# Altium schematic symbol library kmilo17pet-TI_BattMgmt.SchLib: 950 symbols (part 32 of 60)
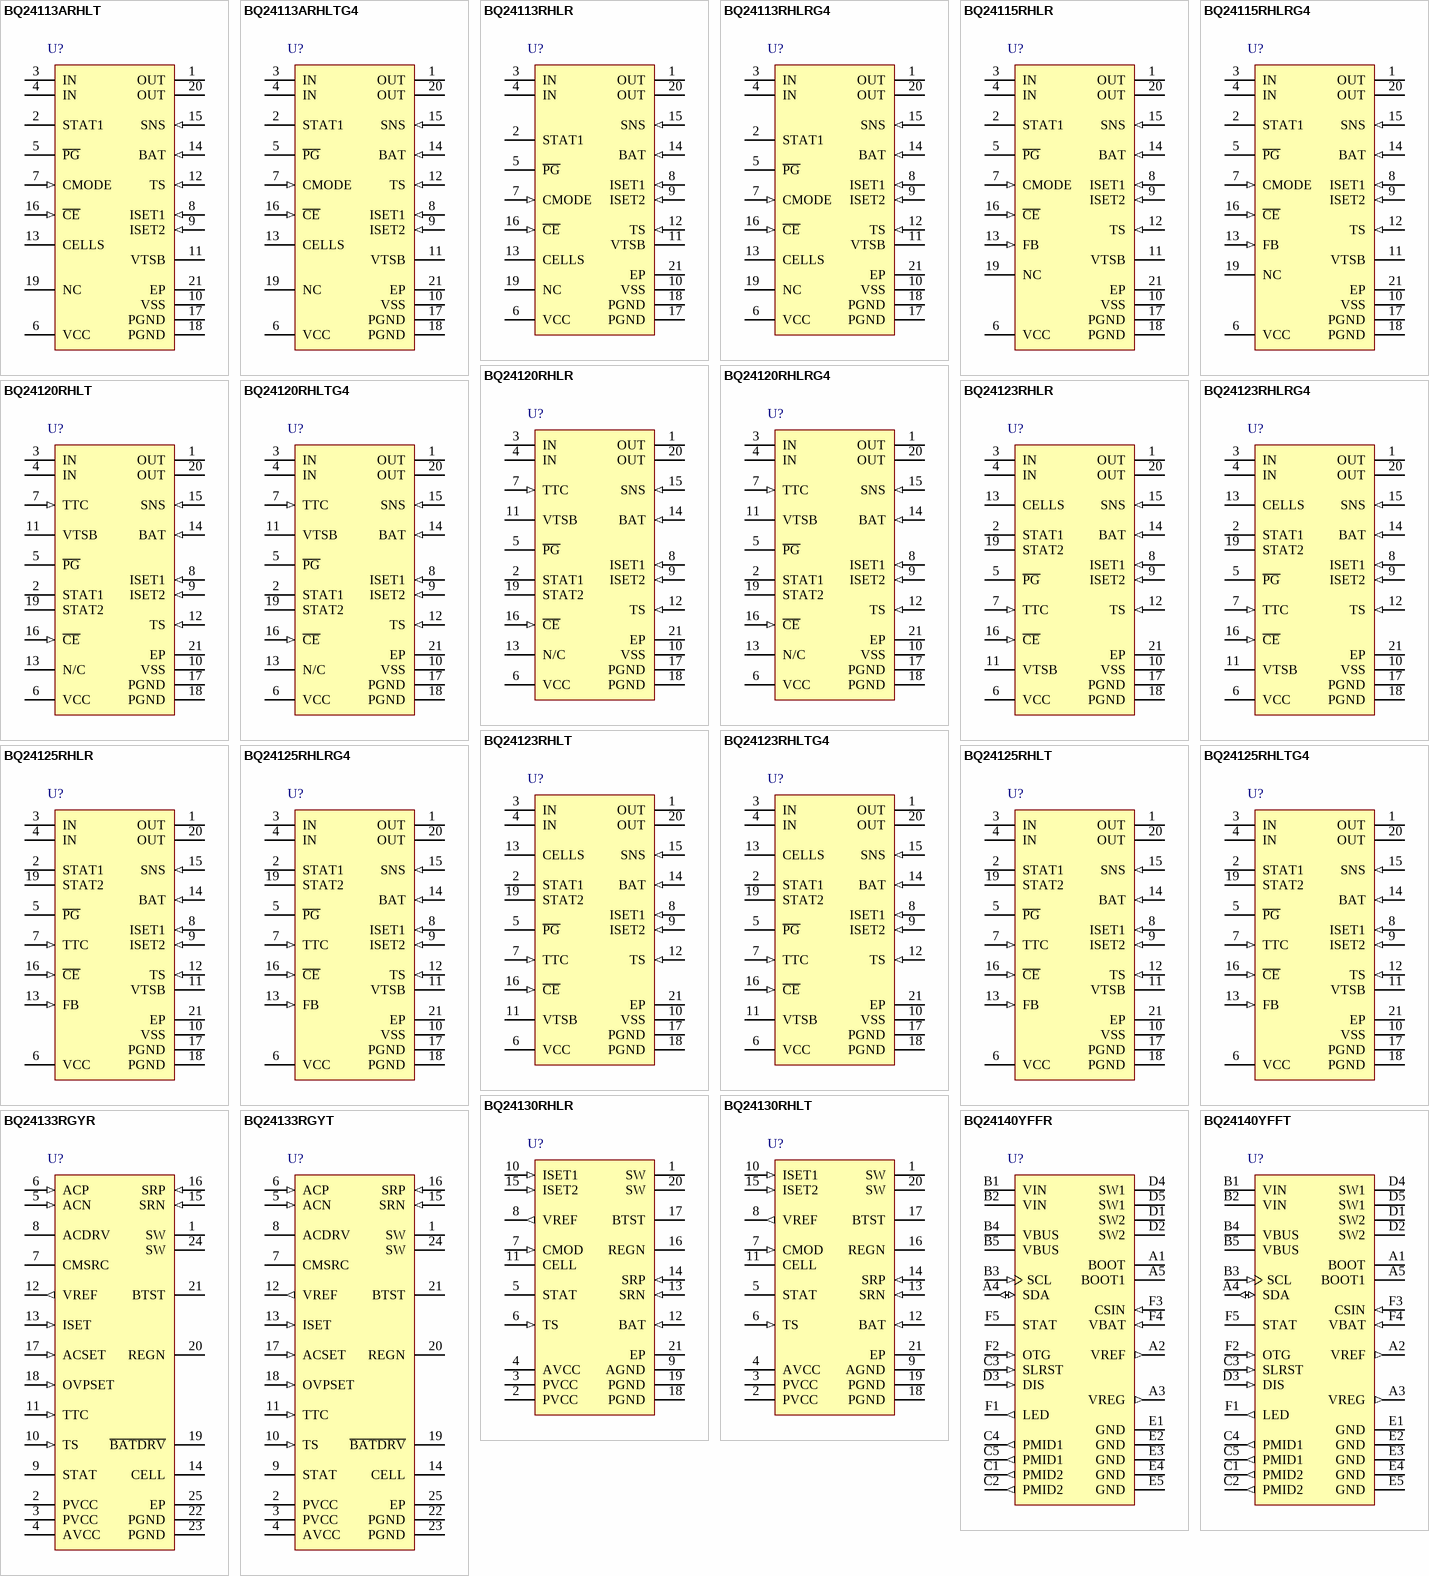
[diagram p65: symbols BQ24113ARHLT to BQ24140YFFT]

## BQ24130RHLR
designator U?
600 kHz Synchronous Switch-Mode Li-Ion and Li-Polymer Host-Controlled Battery Charger, -40 to 85 degC, 20-pin QFN (RHL), Green (RoHS & no Sb/Br); PartNumber: BQ24130RHLR; Manufacturer: Texas Instruments; Lead Acid: N; SubFamily: Battery Charge Management; DatasheetVersion: SLUSAN2C; PackageVersion: revJ, Dec-2011; PackageReference: RHL20-3050X2050TP; PackageDescription: 20-Leads Plastic Quad Flatpack No-Lead, 4.5 x 3.5 x 0.9 mm Body, 0.5 mm Pitch, Exposed Pad; Supplier 1: Digi-Key; Supplier Part Number 1: BQ24130RHLR-ND; Supplier Part Number 3: 595-BQ24130RHLR; Eco-Plan: Green (RoHS & no Sb/Br); Li-Ion: N; Li-Polymer: N; NiCd: N; NiMH: N; Over Voltage Protection: N; Mounting Technology: Surface Mount; ComponentLink1Description: Datasheet; ComponentLink1URL: http://www.ti.com/general/docs/lit/getliterature.tsp?genericPartNumber=BQ24130&fileType=pdf
footprint RHL20-3050X2050TP (QFN, 20-Leads, Body 4.5x3.5mm, Pitch 0.5mm, Thermal Pad 3.05x2.05mm, TI Recommended)
pins: 1 SW (power) "Swiching node, charge current output inductor connection. Connect the 0.47-uF bootstrap capacitor from SW to BTST.", 2 PVCC (power) "Charger input voltage. Connect at least 10-uF ceramic capacitor from PVCC to PGND and place it as close as possible to IC.", 3 PVCC (power) "Charger input voltage. Connect at least 10-µF ceramic capacitor from PVCC to PGND and place it as close as possible to IC.", 4 AVCC (power) "IC power positive supply. Place a 1-uF ceramic capacitor from AVCC to AGND and place it as close as possible to IC. Place a 10 ohm resistor from input side to AVCC pin to filter the noise. For 5 V input, a 5-ohm resistor is (See Datasheet)", 5 STAT (hiz) "Open-drain charge status pin with 10-kohm pull up to power rail. The STAT pin can be used to drive LED or communicate with the host processor. It indicates vaious charger operations: LOW when charge in process, HIGH when (See Datasheet)", 6 TS (in) "Temperature qualification voltage input. Connect a negative temperature coefficient thermistor. Program the hot and cold temperature window with a resistor divider from VREF to TS to AGND. The temperature qualification (See Datasheet)", 7 CMOD (in) "Charge mode selection: low (pull down to AGND) for pre-charge current as set by ISET2 pin and high (pull up to VREF) for fast charge current as set by ISET1 pin. If the battery voltage reaches the voltage regulation set (See Datasheet)", 8 VREF (out) "3.3 V reference voltage output. Place a 1-uF ceramic capacitor from VREF to AGND pin close to the IC. This voltage could be used for programming charge current regulation on ISET1 and ISET2 pins, programming the threshold of (See Datasheet)", 9 AGND (power) "Analog ground. Ground connection for low-current sensitive analog and digital signals. On PCB layout, connect to the analog ground plane, and only connect to PGND through the PowerPad underneath the IC.", 10 ISET1 (in) "Fast charge current set point. Use a voltage divider from VREF to AGND to set this value.The charger is disabled when ISET1 pin voltage is below 50mV and is enabled when ISET1 pin voltage is above 100mV.", 11 CELL "Cell selection pin. Set CELL pin LO for 1-cell, Float for 2-cell, and HI for 3-cell with a fixed 4.2 V per cell.", 12 BAT (in) "Battery voltage remote sense. Directly connect a kelvin sense trace from the battery pack positive terminal to the BAT pin to accurately sense the battery pack voltage. Place a 0.1-uF capacitor from BAT to AGND close to the (See Datasheet)", 13 SRN (in) "Charge current sense resistor, negative input. A 0.1-uF ceramic capacitor is placed from SRN to SRP to provide differential-mode filtering. A 0.1-uF ceramic capacitor is placed from SRN pin to AGND for common-mode filtering.", 14 SRP (in) "Charge current sense resistor, positive input. A 0.1-uF ceramic capacitor is placed from SRN to SRP to provide differential-mode filtering. A 0.1-uF ceramic capacitor is placed from SRN pin to AGND for common-mode filtering.", 15 ISET2 (in) "Pre-charge current set point. Use a voltage divider from VREF to AGND to set this value.", 16 REGN (power) "PWM low side driver positive 6V supply output. Connect a 1-uF ceramic capacitor from REGN to PGND pin, close to the IC. Use for low side driver and high-side driver bootstrap voltage by integrated diode from REGN to BTST.", 17 BTST (power) "PWM high side driver positive supply. Connect the 47 nF bootstrap capacitor from SW to BTST.", 18 PGND (power) "Power ground. Ground connection for high-current power converter node. On PCB layout, connect directly to source of low-side power MOSFET, to ground connection of in put and output capacitors of the charger. Only connect to (See Datasheet)", 19 PGND (power) "Power ground. Ground connection for high-current power converter node. On PCB layout, connect directly to source of low-side power MOSFET, to ground connection of in put and output capacitors of the charger. Only connect to (See Datasheet)", 20 SW (power) "Swiching node, charge current output inductor connection. Connect the 0.47-uF bootstrap capacitor from SW to BTST.", 21 EP (power) "Exposed pad beneath the IC. Always solder PowerPAD to the board, and have vias on the PowerPAD plane star-connecting to AGND and ground plane for high-current power converter. It also serves as a thermal pad to dissipate the (See Datasheet)"

## BQ24130RHLT
designator U?
600 kHz Synchronous Switch-Mode Li-Ion and Li-Polymer Host-Controlled Battery Charger, -40 to 85 degC, 20-pin QFN (RHL), Green (RoHS & no Sb/Br); PartNumber: BQ24130RHLT; Manufacturer: Texas Instruments; Lead Acid: N; SubFamily: Battery Charge Management; DatasheetVersion: SLUSAN2C; PackageVersion: revJ, Dec-2011; PackageReference: RHL20-3050X2050TP; PackageDescription: 20-Leads Plastic Quad Flatpack No-Lead, 4.5 x 3.5 x 0.9 mm Body, 0.5 mm Pitch, Exposed Pad; Supplier 1: Digi-Key; Supplier Part Number 1: 296-29534-2-ND; Supplier Part Number 3: 296-29534-6-ND; Eco-Plan: Green (RoHS & no Sb/Br); Li-Ion: N; Li-Polymer: N; NiCd: N; NiMH: N; Over Voltage Protection: N; Mounting Technology: Surface Mount; ComponentLink1Description: Datasheet; ComponentLink1URL: http://www.ti.com/general/docs/lit/getliterature.tsp?genericPartNumber=BQ24130&fileType=pdf
footprint RHL20-3050X2050TP (QFN, 20-Leads, Body 4.5x3.5mm, Pitch 0.5mm, Thermal Pad 3.05x2.05mm, TI Recommended)
pins: 1 SW (power) "Swiching node, charge current output inductor connection. Connect the 0.47-uF bootstrap capacitor from SW to BTST.", 2 PVCC (power) "Charger input voltage. Connect at least 10-uF ceramic capacitor from PVCC to PGND and place it as close as possible to IC.", 3 PVCC (power) "Charger input voltage. Connect at least 10-µF ceramic capacitor from PVCC to PGND and place it as close as possible to IC.", 4 AVCC (power) "IC power positive supply. Place a 1-uF ceramic capacitor from AVCC to AGND and place it as close as possible to IC. Place a 10 ohm resistor from input side to AVCC pin to filter the noise. For 5 V input, a 5-ohm resistor is (See Datasheet)", 5 STAT (hiz) "Open-drain charge status pin with 10-kohm pull up to power rail. The STAT pin can be used to drive LED or communicate with the host processor. It indicates vaious charger operations: LOW when charge in process, HIGH when (See Datasheet)", 6 TS (in) "Temperature qualification voltage input. Connect a negative temperature coefficient thermistor. Program the hot and cold temperature window with a resistor divider from VREF to TS to AGND. The temperature qualification (See Datasheet)", 7 CMOD (in) "Charge mode selection: low (pull down to AGND) for pre-charge current as set by ISET2 pin and high (pull up to VREF) for fast charge current as set by ISET1 pin. If the battery voltage reaches the voltage regulation set (See Datasheet)", 8 VREF (out) "3.3 V reference voltage output. Place a 1-uF ceramic capacitor from VREF to AGND pin close to the IC. This voltage could be used for programming charge current regulation on ISET1 and ISET2 pins, programming the threshold of (See Datasheet)", 9 AGND (power) "Analog ground. Ground connection for low-current sensitive analog and digital signals. On PCB layout, connect to the analog ground plane, and only connect to PGND through the PowerPad underneath the IC.", 10 ISET1 (in) "Fast charge current set point. Use a voltage divider from VREF to AGND to set this value.The charger is disabled when ISET1 pin voltage is below 50mV and is enabled when ISET1 pin voltage is above 100mV.", 11 CELL "Cell selection pin. Set CELL pin LO for 1-cell, Float for 2-cell, and HI for 3-cell with a fixed 4.2 V per cell.", 12 BAT (in) "Battery voltage remote sense. Directly connect a kelvin sense trace from the battery pack positive terminal to the BAT pin to accurately sense the battery pack voltage. Place a 0.1-uF capacitor from BAT to AGND close to the (See Datasheet)", 13 SRN (in) "Charge current sense resistor, negative input. A 0.1-uF ceramic capacitor is placed from SRN to SRP to provide differential-mode filtering. A 0.1-uF ceramic capacitor is placed from SRN pin to AGND for common-mode filtering.", 14 SRP (in) "Charge current sense resistor, positive input. A 0.1-uF ceramic capacitor is placed from SRN to SRP to provide differential-mode filtering. A 0.1-uF ceramic capacitor is placed from SRN pin to AGND for common-mode filtering.", 15 ISET2 (in) "Pre-charge current set point. Use a voltage divider from VREF to AGND to set this value.", 16 REGN (power) "PWM low side driver positive 6V supply output. Connect a 1-uF ceramic capacitor from REGN to PGND pin, close to the IC. Use for low side driver and high-side driver bootstrap voltage by integrated diode from REGN to BTST.", 17 BTST (power) "PWM high side driver positive supply. Connect the 47 nF bootstrap capacitor from SW to BTST.", 18 PGND (power) "Power ground. Ground connection for high-current power converter node. On PCB layout, connect directly to source of low-side power MOSFET, to ground connection of in put and output capacitors of the charger. Only connect to (See Datasheet)", 19 PGND (power) "Power ground. Ground connection for high-current power converter node. On PCB layout, connect directly to source of low-side power MOSFET, to ground connection of in put and output capacitors of the charger. Only connect to (See Datasheet)", 20 SW (power) "Swiching node, charge current output inductor connection. Connect the 0.47-uF bootstrap capacitor from SW to BTST.", 21 EP (power) "Exposed pad beneath the IC. Always solder PowerPAD to the board, and have vias on the PowerPAD plane star-connecting to AGND and ground plane for high-current power converter. It also serves as a thermal pad to dissipate the (See Datasheet)"

## BQ24133RGYR
designator U?
Synchronous Switch-Mode Li-Ion and Li-Polymer Stand-Alone Battery Charger, -40 to 85 degC, 24-pin VQFN (RGY), Green (RoHS & no Sb/Br); PartNumber: BQ24133RGYR; Manufacturer: Texas Instruments; Lead Acid: N; SubFamily: Battery Charge Management; DatasheetVersion: SLUSAF7B; PackageVersion: revI, Jun-2011; PackageReference: RGY24-3100X2050TP; PackageDescription: 24-Leads Plastic Quad Flatpack No-Lead, 5.5 x 3.5 x 0.9 mm Body, 0.5 mm Pitch, Exposed Pad; Supplier 1: Digi-Key; Supplier Part Number 1: BQ24133RGYR-ND; Supplier Part Number 3: 595-BQ24133RGYR; Eco-Plan: Green (RoHS & no Sb/Br); Li-Ion: N; Li-Polymer: N; NiCd: N; NiMH: N; Over Voltage Protection: N; Mounting Technology: Surface Mount; Code_JEDEC: MO-241-BA; ComponentLink1Description: Datasheet; ComponentLink1URL: http://www.ti.com/general/docs/lit/getliterature.tsp?genericPartNumber=BQ24133&fileType=pdf
footprint RGY24-3100X2050TP (QFN, 24-Leads, Body 5.5x3.5mm, Pitch 0.5mm, Thermal Pad 3.1x2.05mm, TI Recommended)
pins: 1 SW (power) "Switching node, charge current output inductor connection. Connect the 0.047-uF bootstrap capacitor from SW to BTST.", 2 PVCC (power) "Charger input voltage. Connect at least 10-uF ceramic capacitor from PVCC to PGND and place it as close as possible to IC", 3 PVCC (power) "Charger input voltage. Connect at least 10-uF ceramic capacitor from PVCC to PGND and place it as close as possible to IC", 4 AVCC (power) "IC power positive supply. Place a 1-uF ceramic capacitor from AVCC to AGND and place it as close as possible to IC. Place a 10-ohm resistor from input side to AVCC pin to filter the noise. For 5V input, a 5-ohm resistor is (See Datasheet)", 5 ACN (in) "Adapter current sense resistor negative input. A 0.1-uF ceramic capacitor is placed from ACN to ACP to provide differential-mode filtering. An optional 0.1-uF ceramic capacitor is placed from ACN pin to AGND for common-mode (See Datasheet)", 6 ACP (in) "Adapter current sense resistor positive input. A 0.1-uF ceramic capacitor is placed from ACN to ACP to provide differential-mode filtering. A 0.1-uF ceramic capacitor is placed from ACP pin to AGND for common-mode filtering.", 7 CMSRC "Connect to common source of N-channel ACFET and reverse blocking MOSFET (RBFET). Place 4-kohm resistor from CMSRC pin to the common source of ACFET and RBFET to control the turn-on speed. The resistance between ACDRV and (See Datasheet)", 8 ACDRV "AC adapter to system switch driver output. Connect to 4-kohm resistor then to the gate of the ACFET N-channel power MOSFET and the reverse conduction blocking N-channel power MOSFET. Connect both FETs as common-source. The (See Datasheet)", 9 STAT (hiz) "Open-drain charge status pin with 10-k ohm pull up to power rail. The STAT pin can be used to drive LED or communicate with the host processor. It indicates various charger operations: LOW when charge in progress. HIGH when (See Datasheet)", 10 TS (in) "Temperature qualification voltage input. Connect a negative temperature coefficient thermistor. Program the hot and cold temperature window with a resistor divider from VREF to TS to AGND. The temperature qualification (See Datasheet)", 11 TTC (in) "Safety Timer and termination control. Connect a capacitor from this node to AGND to set the fast charge safety timer(5.6min/nF). Pre-charge timer is internally fixed to 30 minutes. Pull the TTC to LOW to disable the charge (See Datasheet)", 12 VREF (out) "3.3V reference voltage output. Place a 1-uF ceramic capacitor from VREF to AGND pin close to the IC. This voltage could be used for programming ISET and ACSET and TS pins. It may also serve as the pull-up rail of STAT pin (See Datasheet)", 13 ISET (in) "Fast charge current set point. Use a voltage divider from VREF to ISET to AGND to set the fast charge current: ICHG=VISET/(20*RSR) The pre-charge and termination current is internally as one tenth of the charge current. The (See Datasheet)", 14 CELL "Cell selection pin. Set CELL pin LOW for 1-cell, Float for 2-cell (0.8V-1.8V), and HIGH for 3-cell with a fixed 4.2V per cell.", 15 SRN (in) "Charge current sense resistor negative input. A 0.1-uF ceramic capacitor is placed from SRN to SRP to provide differential-mode filtering. A 0.1-uF ceramic capacitor is placed from SRN pin to AGND for common-mode filtering.", 16 SRP (in) "Charge current sense resistor, positive input. A 0.1-uF ceramic capacitor is placed from SRN to SRP to provide differential-mode filtering. A 0.1-uF ceramic capacitor is placed from SRP pin to AGND for common-mode filtering.", 17 ACSET (in) "Input current set point. Use a voltage divider from VREF to ACSET to AGND to set this value:IDPM=VACSET/(20*RAC)", 18 OVPSET (in) "Valid input voltage set point. Use a voltage divider from input to OVPSET to AGND to set this voltage. The voltage above internal 1.6V reference indicates input over-voltage, and the voltage below internal 0.5V reference (See Datasheet)", 19 ~{BATDRV} "Battery discharge MOSFET gate driver output. Connect to 1kohm resistor to the gate of the BATFET P-channel power MOSFET. Connect the source of the BATFET to the system load voltage node. Connect the drain of the BATFET to (See Datasheet)", 20 REGN (power) "PWM low side driver positive 6V supply output. Connect a 1-uF ceramic capacitor from REGN to PGND pin, close to the IC. Generate high-side driver bootstrap voltage by integrated diode from REGN to BTST", 21 BTST (power) "PWM high side driver positive supply. Connect the 0.047-uF bootstrap capacitor from SW to BTST.", 22 PGND (power) "Power ground. Ground connection for high-current power converter node. On PCB layout, connect directly to ground connection of input and output capacitors of the charger. Only connect to AGND through the Thermal Pad (See Datasheet)", 23 PGND (power) "Power ground. Ground connection for high-current power converter node. On PCB layout, connect directly to ground connection of input and output capacitors of the charger. Only connect to AGND through the Thermal Pad (See Datasheet)", 24 SW (power) "Switching node, charge current output inductor connection. Connect the 0.047-uF bootstrap capacitor from SW to BTST.", 25 EP (power) "Exposed pad beneath the IC. Always solder Thermal Pad to the board, and have vias on the Thermal  Pad plane star-connecting to AGND and ground plane for high-current power converter. It dissipates the heat from the IC."

## BQ24133RGYT
designator U?
Synchronous Switch-Mode Li-Ion and Li-Polymer Stand-Alone Battery Charger, -40 to 85 degC, 24-pin VQFN (RGY), Green (RoHS & no Sb/Br); PartNumber: BQ24133RGYT; Manufacturer: Texas Instruments; Lead Acid: N; SubFamily: Battery Charge Management; DatasheetVersion: SLUSAF7B; PackageVersion: revI, Jun-2011; PackageReference: RGY24-3100X2050TP; PackageDescription: 24-Leads Plastic Quad Flatpack No-Lead, 5.5 x 3.5 x 0.9 mm Body, 0.5 mm Pitch, Exposed Pad; Supplier 1: Digi-Key; Supplier Part Number 1: 296-28314-2-ND; Supplier Part Number 3: 296-28314-6-ND; Eco-Plan: Green (RoHS & no Sb/Br); Li-Ion: N; Li-Polymer: N; NiCd: N; NiMH: N; Over Voltage Protection: N; Mounting Technology: Surface Mount; Code_JEDEC: MO-241-BA; ComponentLink1Description: Datasheet; ComponentLink1URL: http://www.ti.com/general/docs/lit/getliterature.tsp?genericPartNumber=BQ24133&fileType=pdf
footprint RGY24-3100X2050TP (QFN, 24-Leads, Body 5.5x3.5mm, Pitch 0.5mm, Thermal Pad 3.1x2.05mm, TI Recommended)
pins: 1 SW (power) "Switching node, charge current output inductor connection. Connect the 0.047-uF bootstrap capacitor from SW to BTST.", 2 PVCC (power) "Charger input voltage. Connect at least 10-uF ceramic capacitor from PVCC to PGND and place it as close as possible to IC", 3 PVCC (power) "Charger input voltage. Connect at least 10-uF ceramic capacitor from PVCC to PGND and place it as close as possible to IC", 4 AVCC (power) "IC power positive supply. Place a 1-uF ceramic capacitor from AVCC to AGND and place it as close as possible to IC. Place a 10-ohm resistor from input side to AVCC pin to filter the noise. For 5V input, a 5-ohm resistor is (See Datasheet)", 5 ACN (in) "Adapter current sense resistor negative input. A 0.1-uF ceramic capacitor is placed from ACN to ACP to provide differential-mode filtering. An optional 0.1-uF ceramic capacitor is placed from ACN pin to AGND for common-mode (See Datasheet)", 6 ACP (in) "Adapter current sense resistor positive input. A 0.1-uF ceramic capacitor is placed from ACN to ACP to provide differential-mode filtering. A 0.1-uF ceramic capacitor is placed from ACP pin to AGND for common-mode filtering.", 7 CMSRC "Connect to common source of N-channel ACFET and reverse blocking MOSFET (RBFET). Place 4-kohm resistor from CMSRC pin to the common source of ACFET and RBFET to control the turn-on speed. The resistance between ACDRV and (See Datasheet)", 8 ACDRV "AC adapter to system switch driver output. Connect to 4-kohm resistor then to the gate of the ACFET N-channel power MOSFET and the reverse conduction blocking N-channel power MOSFET. Connect both FETs as common-source. The (See Datasheet)", 9 STAT (hiz) "Open-drain charge status pin with 10-k ohm pull up to power rail. The STAT pin can be used to drive LED or communicate with the host processor. It indicates various charger operations: LOW when charge in progress. HIGH when (See Datasheet)", 10 TS (in) "Temperature qualification voltage input. Connect a negative temperature coefficient thermistor. Program the hot and cold temperature window with a resistor divider from VREF to TS to AGND. The temperature qualification (See Datasheet)", 11 TTC (in) "Safety Timer and termination control. Connect a capacitor from this node to AGND to set the fast charge safety timer(5.6min/nF). Pre-charge timer is internally fixed to 30 minutes. Pull the TTC to LOW to disable the charge (See Datasheet)", 12 VREF (out) "3.3V reference voltage output. Place a 1-uF ceramic capacitor from VREF to AGND pin close to the IC. This voltage could be used for programming ISET and ACSET and TS pins. It may also serve as the pull-up rail of STAT pin (See Datasheet)", 13 ISET (in) "Fast charge current set point. Use a voltage divider from VREF to ISET to AGND to set the fast charge current: ICHG=VISET/(20*RSR) The pre-charge and termination current is internally as one tenth of the charge current. The (See Datasheet)", 14 CELL "Cell selection pin. Set CELL pin LOW for 1-cell, Float for 2-cell (0.8V-1.8V), and HIGH for 3-cell with a fixed 4.2V per cell.", 15 SRN (in) "Charge current sense resistor negative input. A 0.1-uF ceramic capacitor is placed from SRN to SRP to provide differential-mode filtering. A 0.1-uF ceramic capacitor is placed from SRN pin to AGND for common-mode filtering.", 16 SRP (in) "Charge current sense resistor, positive input. A 0.1-uF ceramic capacitor is placed from SRN to SRP to provide differential-mode filtering. A 0.1-uF ceramic capacitor is placed from SRP pin to AGND for common-mode filtering.", 17 ACSET (in) "Input current set point. Use a voltage divider from VREF to ACSET to AGND to set this value:IDPM=VACSET/(20*RAC)", 18 OVPSET (in) "Valid input voltage set point. Use a voltage divider from input to OVPSET to AGND to set this voltage. The voltage above internal 1.6V reference indicates input over-voltage, and the voltage below internal 0.5V reference (See Datasheet)", 19 ~{BATDRV} "Battery discharge MOSFET gate driver output. Connect to 1kohm resistor to the gate of the BATFET P-channel power MOSFET. Connect the source of the BATFET to the system load voltage node. Connect the drain of the BATFET to (See Datasheet)", 20 REGN (power) "PWM low side driver positive 6V supply output. Connect a 1-uF ceramic capacitor from REGN to PGND pin, close to the IC. Generate high-side driver bootstrap voltage by integrated diode from REGN to BTST", 21 BTST (power) "PWM high side driver positive supply. Connect the 0.047-uF bootstrap capacitor from SW to BTST.", 22 PGND (power) "Power ground. Ground connection for high-current power converter node. On PCB layout, connect directly to ground connection of input and output capacitors of the charger. Only connect to AGND through the Thermal Pad (See Datasheet)", 23 PGND (power) "Power ground. Ground connection for high-current power converter node. On PCB layout, connect directly to ground connection of input and output capacitors of the charger. Only connect to AGND through the Thermal Pad (See Datasheet)", 24 SW (power) "Switching node, charge current output inductor connection. Connect the 0.047-uF bootstrap capacitor from SW to BTST.", 25 EP (power) "Exposed pad beneath the IC. Always solder Thermal Pad to the board, and have vias on the Thermal  Pad plane star-connecting to AGND and ground plane for high-current power converter. It dissipates the heat from the IC."

## BQ24140YFFR
designator U?
1.5 A Dual Input Switchmode Charger with USB-OTG Suppor, 4 V, -40 to 85 degC, 30-pin DSBGA (YFF), Green (RoHS & no Sb/Br); PartNumber: BQ24140YFFR; Manufacturer: Texas Instruments; Lead Acid: N; Li-Ion: Y; SubFamily: Battery Charge Management; Vin(Min)(V): 4; DatasheetVersion: SLUSAO5; PackageVersion: revAE, Nov-2011; PackageReference: YFF30; PackageDescription: 30-Ball Die-Size Ball Grid Array, 2.6 x 2.3 mm Body, 0.4 mm Pitch, Pb-Free; Supplier 1: Digi-Key; Supplier Part Number 1: 296-29787-2-ND; Supplier Part Number 3: 296-29787-6-ND; Eco-Plan: Green (RoHS & no Sb/Br); Li-Polymer: Y; NiCd: N; NiMH: N; Over Voltage Protection: N; Mounting Technology: Surface Mount; ComponentLink1Description: Datasheet; ComponentLink1URL: http://www.ti.com/general/docs/lit/getliterature.tsp?genericPartNumber=BQ24140&fileType=pdf
footprint YFF30 (BGA, 30-Leads, Body 2.6x2.3mm, Pitch 0.4mm, Solder Mask Defined Pads)
pins: A1 BOOT (power) "Boot-strapped capacitor for the high-side MOSFET gate driver. Connect a 100nF ceramic capacitor (voltage rating above 10V) from BOOT pin to SW2 pin.", A2 VREF (out) "Internal bias regulator voltage. Connect a 1uF ceramic capacitor from this output to PGND.", A3 VREG (out) "Voltage regulator. 2.5V with 10mA current capability. Connect a 0.1uF ceramic capacitor to ground", A4 SDA (io) "I2C interface data. Connect a 10-kO pull-up resistor to 1.8V rail.", A5 BOOT1 (power) "Boot-strapped capacitor for the high-side MOSFET gate driver. Connect a 100nF ceramic capacitor (voltage rating above 10V) from BOOT1 pin to SW1 pin.", B1 VIN (power) "Charger input voltage. Bypass it with a 1uF ceramic capacitor from VIN to GND.", B2 VIN (power) "Charger input voltage. Bypass it with a 1uF ceramic capacitor from VIN to GND.", B3 SCL (in) "I2C interface clock. Connect a 10-kO pull-up resistor to 1.8V rail.", B4 VBUS (power) "Charger input voltage. Bypass it with a 4.7uF ceramic capacitor from VBUS to GND. This pin also provides the output of the boost converter when in Boost Mode.", B5 VBUS (power) "Charger input voltage. Bypass it with a 4.7uF ceramic capacitor from VBUS to GND. This pin also provides the output of the boost converter when in Boost Mode.", C1 PMID2 (out) "Connection point between reverse blocking FET and high-side switching FET. Bypass it with a minimum of 3.3uF capacitor from PMID2 to GND.", C2 PMID2 (out) "Connection point between reverse blocking FET and high-side switching FET. Bypass it with a minimum of 3.3uF capacitor from PMID2 to GND.", C3 SLRST (in) "Safety limit register control. When SLRST = 0, all the safety limit values are reset to default values, regardless of the write actions to the safety limits registers. When SLRST = 1, the host can program the safety limits (See Datasheet)", C4 PMID1 (out) "Connection point between reverse blocking FET and high-side switching FET. Bypass it with a minimum of 3.3uF capacitor from PMID1 to GND.", C5 PMID1 (out) "Connection point between reverse blocking FET and high-side switching FET. Bypass it with a minimum of 3.3uF capacitor from PMID1 to GND.", D1 SW2 (power) "Internal switch to output inductor connection.", D2 SW2 (power) "Internal switch to output inductor connection.", D3 DIS (in) "Charge disable control pin. DIS=0, charge is enabled. DIS=1, charge is disabled. VIN and VBUS pins are high impedance to PGND. In 15min mode, DIS=1 will reset the 15min timer; while in 32s mode, DIS=1 will NOT reset the (See Datasheet)", D4 SW1 (power) "Internal switch to output inductor connection.", D5 SW1 (power) "Internal switch to output inductor connection.", E1 GND (power) "Ground pins.", E2 GND (power) "Ground pins.", E3 GND (power) "Ground pins.", E4 GND (power) "Ground pins.", E5 GND (power) "Ground pins.", F1 LED (out) "High side LED driver. Current, on and off times can be programmed through I2C to select different modes.", F2 OTG (in) "Boost mode enable control and VBUS input current limiting selection pin. When OTG is in active status per the control register, VBUS converter will be forced to operate in boost mode. It has higher priority over I2C control (See Datasheet)", F3 CSIN (in) "Charge current-sense input. Battery current is sensed via the voltage drop across an external sense resistor. A 0.1uF ceramic capacitor to GND is required.", F4 VBAT (in) "Battery voltage and current sense input. Bypass it with a ceramic capacitor (minimum 0.1uF) to GND if there are long inductive leads to battery.", F5 STAT (hiz) "Charge status pin. Pull low when charge in progress. Open drain for other conditions. During faults, a 128uS pulse is sent out. STAT pin can be disabled by the EN_STAT bit in control register. STAT can be used to drive a LED (See Datasheet)"

## BQ24140YFFT
designator U?
1.5 A Dual Input Switchmode Charger with USB-OTG Suppor, 4 V, -40 to 85 degC, 30-pin DSBGA (YFF), Green (RoHS & no Sb/Br); PartNumber: BQ24140YFFT; Manufacturer: Texas Instruments; Lead Acid: N; Li-Ion: Y; SubFamily: Battery Charge Management; Vin(Min)(V): 4; DatasheetVersion: SLUSAO5; PackageVersion: revAE, Nov-2011; PackageReference: YFF30; PackageDescription: 30-Ball Die-Size Ball Grid Array, 2.6 x 2.3 mm Body, 0.4 mm Pitch, Pb-Free; Supplier 1: Digi-Key; Supplier Part Number 1: 296-32028-2-ND; Supplier Part Number 3: 296-32028-6-ND; Eco-Plan: Green (RoHS & no Sb/Br); Li-Polymer: Y; NiCd: N; NiMH: N; Over Voltage Protection: N; Mounting Technology: Surface Mount; ComponentLink1Description: Datasheet; ComponentLink1URL: http://www.ti.com/general/docs/lit/getliterature.tsp?genericPartNumber=BQ24140&fileType=pdf
footprint YFF30 (BGA, 30-Leads, Body 2.6x2.3mm, Pitch 0.4mm, Solder Mask Defined Pads)
pins: A1 BOOT (power) "Boot-strapped capacitor for the high-side MOSFET gate driver. Connect a 100nF ceramic capacitor (voltage rating above 10V) from BOOT pin to SW2 pin.", A2 VREF (out) "Internal bias regulator voltage. Connect a 1uF ceramic capacitor from this output to PGND.", A3 VREG (out) "Voltage regulator. 2.5V with 10mA current capability. Connect a 0.1uF ceramic capacitor to ground", A4 SDA (io) "I2C interface data. Connect a 10-kO pull-up resistor to 1.8V rail.", A5 BOOT1 (power) "Boot-strapped capacitor for the high-side MOSFET gate driver. Connect a 100nF ceramic capacitor (voltage rating above 10V) from BOOT1 pin to SW1 pin.", B1 VIN (power) "Charger input voltage. Bypass it with a 1uF ceramic capacitor from VIN to GND.", B2 VIN (power) "Charger input voltage. Bypass it with a 1uF ceramic capacitor from VIN to GND.", B3 SCL (in) "I2C interface clock. Connect a 10-kO pull-up resistor to 1.8V rail.", B4 VBUS (power) "Charger input voltage. Bypass it with a 4.7uF ceramic capacitor from VBUS to GND. This pin also provides the output of the boost converter when in Boost Mode.", B5 VBUS (power) "Charger input voltage. Bypass it with a 4.7uF ceramic capacitor from VBUS to GND. This pin also provides the output of the boost converter when in Boost Mode.", C1 PMID2 (out) "Connection point between reverse blocking FET and high-side switching FET. Bypass it with a minimum of 3.3uF capacitor from PMID2 to GND.", C2 PMID2 (out) "Connection point between reverse blocking FET and high-side switching FET. Bypass it with a minimum of 3.3uF capacitor from PMID2 to GND.", C3 SLRST (in) "Safety limit register control. When SLRST = 0, all the safety limit values are reset to default values, regardless of the write actions to the safety limits registers. When SLRST = 1, the host can program the safety limits (See Datasheet)", C4 PMID1 (out) "Connection point between reverse blocking FET and high-side switching FET. Bypass it with a minimum of 3.3uF capacitor from PMID1 to GND.", C5 PMID1 (out) "Connection point between reverse blocking FET and high-side switching FET. Bypass it with a minimum of 3.3uF capacitor from PMID1 to GND.", D1 SW2 (power) "Internal switch to output inductor connection.", D2 SW2 (power) "Internal switch to output inductor connection.", D3 DIS (in) "Charge disable control pin. DIS=0, charge is enabled. DIS=1, charge is disabled. VIN and VBUS pins are high impedance to PGND. In 15min mode, DIS=1 will reset the 15min timer; while in 32s mode, DIS=1 will NOT reset the (See Datasheet)", D4 SW1 (power) "Internal switch to output inductor connection.", D5 SW1 (power) "Internal switch to output inductor connection.", E1 GND (power) "Ground pins.", E2 GND (power) "Ground pins.", E3 GND (power) "Ground pins.", E4 GND (power) "Ground pins.", E5 GND (power) "Ground pins.", F1 LED (out) "High side LED driver. Current, on and off times can be programmed through I2C to select different modes.", F2 OTG (in) "Boost mode enable control and VBUS input current limiting selection pin. When OTG is in active status per the control register, VBUS converter will be forced to operate in boost mode. It has higher priority over I2C control (See Datasheet)", F3 CSIN (in) "Charge current-sense input. Battery current is sensed via the voltage drop across an external sense resistor. A 0.1uF ceramic capacitor to GND is required.", F4 VBAT (in) "Battery voltage and current sense input. Bypass it with a ceramic capacitor (minimum 0.1uF) to GND if there are long inductive leads to battery.", F5 STAT (hiz) "Charge status pin. Pull low when charge in progress. Open drain for other conditions. During faults, a 128uS pulse is sent out. STAT pin can be disabled by the EN_STAT bit in control register. STAT can be used to drive a LED (See Datasheet)"

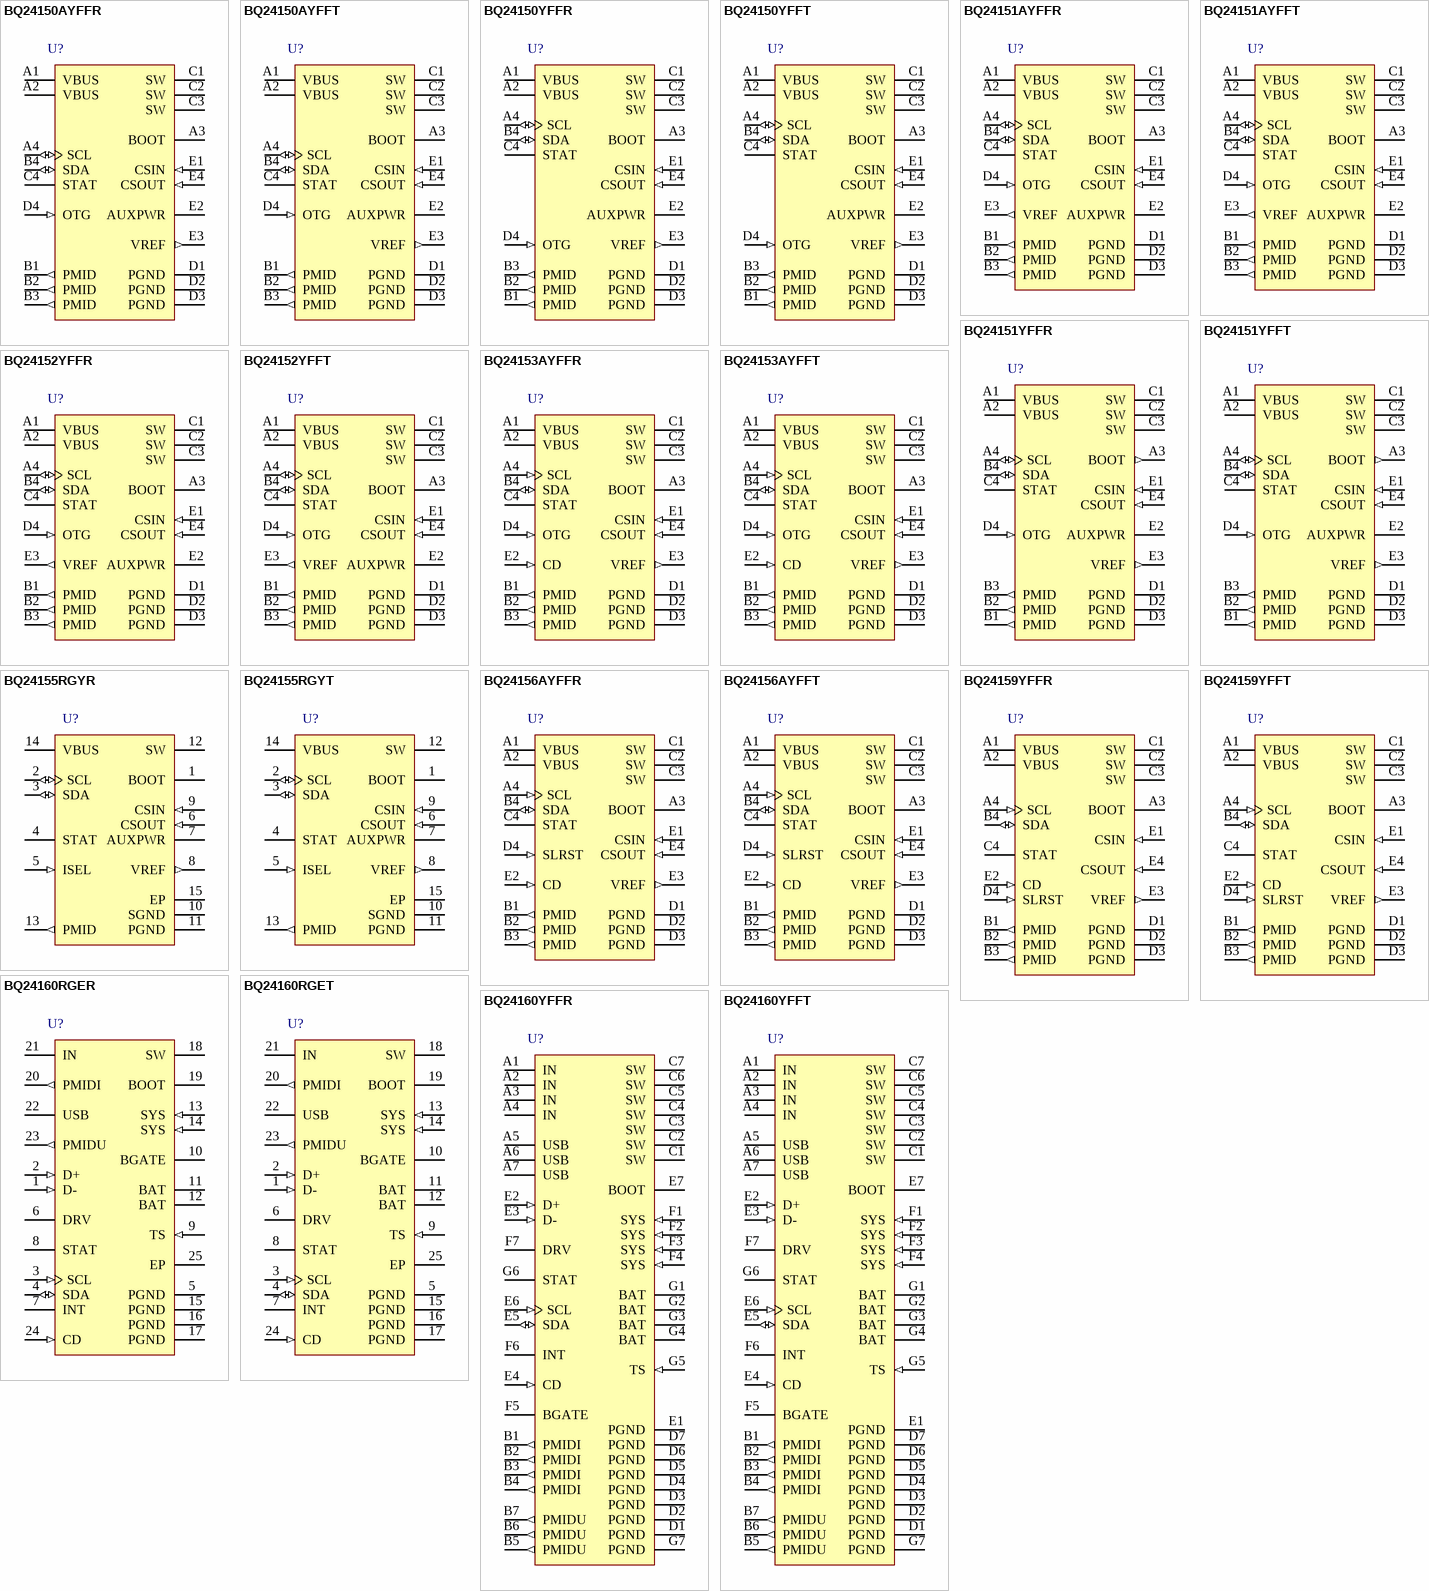
[diagram p19: symbols BQ24150AYFFR to BQ24160YFFT]

## BQ24150AYFFR
designator U?
Fully Integrated Switch-Mode One-Cell Li-Ion Charger with Full USB Compliance and USB-OTG Suppor, 4 V, -40 to 85 degC, 20-pin DSBGA (YFF), Green (RoHS & no Sb/Br); PartNumber: BQ24150AYFFR; Manufacturer: Texas Instruments; Lead Acid: N; Li-Ion: Y; SubFamily: Battery Charge Management; Vin(Min)(V): 4; DatasheetVersion: SLUS931A; PackageVersion: revAF, Mar-2012; PackageReference: YFF20-1976X1946DE; PackageDescription: 20-Ball Die-Size Ball Grid Array, 1.98 x 1.95 mm Body, 0.4 mm Pitch, Pb-Free; Supplier 1: Digi-Key; Supplier Part Number 1: 296-24527-2-ND; Supplier Part Number 3: 296-24527-6-ND; Eco-Plan: Green (RoHS & no Sb/Br); Li-Polymer: Y; NiCd: N; NiMH: N; Over Voltage Protection: N; Mounting Technology: Surface Mount; ComponentLink1Description: Datasheet; ComponentLink1URL: http://www.ti.com/general/docs/lit/getliterature.tsp?genericPartNumber=BQ24150A&fileType=pdf
footprint YFF20-1976X1946DE (BGA, 20-Leads, Body 1.98x1.95mm, Pitch 0.4mm, Solder Mask Defined Pads)
pins: A1 VBUS (power) "Charger input voltage. Bypass it with a 1-uF ceramic capacitor from VBUS to PGND", A2 VBUS (power) "Charger input voltage. Bypass it with a 1-uF ceramic capacitor from VBUS to PGND", A3 BOOT (power) "Boot-strapped capacitor for the high-side MOSFET gate driver. Connect a 10-nF ceramic capacitor (voltage rating above 10 V) from BOOT pin to SW pin.", A4 SCL (io) "I2C interface clock. Open drain output, connect a 10-kohm pullup resistor to 1.8V rail", B1 PMID (out) "Connection point between reverse blocking MOSFET and high-side switching MOSFET. Bypass it with a minimum of 3.3-uF capacitor from PMID to PGND.", B2 PMID (out) "Connection point between reverse blocking MOSFET and high-side switching MOSFET. Bypass it with a minimum of 3.3-uF capacitor from PMID to PGND.", B3 PMID (out) "Connection point between reverse blocking MOSFET and high-side switching MOSFET. Bypass it with a minimum of 3.3-uF capacitor from PMID to PGND.", B4 SDA (io) "I2C interface data. Open drain output, connect a 10-kohm pullup resistor to 1.8V rail", C1 SW (power) "Internal switch to output inductor connection.", C2 SW (power) "Internal switch to output inductor connection.", C3 SW (power) "Internal switch to output inductor connection.", C4 STAT (hiz) "Charge status pin. Pull low when charge in progress. Open drain for other conditions. During faults, a 128-uS pulse is sent out. STAT pin can be disabled by the EN_STAT bit in control register. STAT can be used to drive a (See Datasheet)", D1 PGND (power) "Power ground", D2 PGND (power) "Power ground", D3 PGND (power) "Power ground", D4 OTG (in) "Boost mode enable control or input current limiting selection pin. When OTG is in active status, bq24150A/1A is forced to operate in boost mode. It has higher priority over I2C control and can be disabled through control (See Datasheet)", E1 CSIN (in) "Charge current-sense input. Battery current is sensed via the voltage drop across an external sense resistor. A 0.1-uF ceramic capacitor to PGND is required.", E2 AUXPWR (power) "Auxiliary power supply, connected to the battery pack to provide power in high-impedance mode. Bypass it with a 1-uF ceramic capacitor from this pin to PGND.", E3 VREF (out) "Internal bias regulator voltage. Connect a 1-uF ceramic capacitor from this output to PGND. External load on VREF is not allowed.", E4 CSOUT (in) "Battery voltage and current sense input. Bypass it with a ceramic capacitor (minimum 0.1 uF) to PGND if there are long inductive leads to battery."

## BQ24150AYFFT
designator U?
Fully Integrated Switch-Mode One-Cell Li-Ion Charger with Full USB Compliance and USB-OTG Suppor, 4 V, -40 to 85 degC, 20-pin DSBGA (YFF), Green (RoHS & no Sb/Br); PartNumber: BQ24150AYFFT; Manufacturer: Texas Instruments; Lead Acid: N; Li-Ion: Y; SubFamily: Battery Charge Management; Vin(Min)(V): 4; DatasheetVersion: SLUS931A; PackageVersion: revAF, Mar-2012; PackageReference: YFF20-1976X1946DE; PackageDescription: 20-Ball Die-Size Ball Grid Array, 1.98 x 1.95 mm Body, 0.4 mm Pitch, Pb-Free; Supplier 1: Digi-Key; Supplier Part Number 1: 296-24546-2-ND; Supplier Part Number 3: 296-24546-6-ND; Eco-Plan: Green (RoHS & no Sb/Br); Li-Polymer: Y; NiCd: N; NiMH: N; Over Voltage Protection: N; Mounting Technology: Surface Mount; ComponentLink1Description: Datasheet; ComponentLink1URL: http://www.ti.com/general/docs/lit/getliterature.tsp?genericPartNumber=BQ24150A&fileType=pdf
footprint YFF20-1976X1946DE (BGA, 20-Leads, Body 1.98x1.95mm, Pitch 0.4mm, Solder Mask Defined Pads)
pins: A1 VBUS (power) "Charger input voltage. Bypass it with a 1-uF ceramic capacitor from VBUS to PGND", A2 VBUS (power) "Charger input voltage. Bypass it with a 1-uF ceramic capacitor from VBUS to PGND", A3 BOOT (power) "Boot-strapped capacitor for the high-side MOSFET gate driver. Connect a 10-nF ceramic capacitor (voltage rating above 10 V) from BOOT pin to SW pin.", A4 SCL (io) "I2C interface clock. Open drain output, connect a 10-kohm pullup resistor to 1.8V rail", B1 PMID (out) "Connection point between reverse blocking MOSFET and high-side switching MOSFET. Bypass it with a minimum of 3.3-uF capacitor from PMID to PGND.", B2 PMID (out) "Connection point between reverse blocking MOSFET and high-side switching MOSFET. Bypass it with a minimum of 3.3-uF capacitor from PMID to PGND.", B3 PMID (out) "Connection point between reverse blocking MOSFET and high-side switching MOSFET. Bypass it with a minimum of 3.3-uF capacitor from PMID to PGND.", B4 SDA (io) "I2C interface data. Open drain output, connect a 10-kohm pullup resistor to 1.8V rail", C1 SW (power) "Internal switch to output inductor connection.", C2 SW (power) "Internal switch to output inductor connection.", C3 SW (power) "Internal switch to output inductor connection.", C4 STAT (hiz) "Charge status pin. Pull low when charge in progress. Open drain for other conditions. During faults, a 128-uS pulse is sent out. STAT pin can be disabled by the EN_STAT bit in control register. STAT can be used to drive a (See Datasheet)", D1 PGND (power) "Power ground", D2 PGND (power) "Power ground", D3 PGND (power) "Power ground", D4 OTG (in) "Boost mode enable control or input current limiting selection pin. When OTG is in active status, bq24150A/1A is forced to operate in boost mode. It has higher priority over I2C control and can be disabled through control (See Datasheet)", E1 CSIN (in) "Charge current-sense input. Battery current is sensed via the voltage drop across an external sense resistor. A 0.1-uF ceramic capacitor to PGND is required.", E2 AUXPWR (power) "Auxiliary power supply, connected to the battery pack to provide power in high-impedance mode. Bypass it with a 1-uF ceramic capacitor from this pin to PGND.", E3 VREF (out) "Internal bias regulator voltage. Connect a 1-uF ceramic capacitor from this output to PGND. External load on VREF is not allowed.", E4 CSOUT (in) "Battery voltage and current sense input. Bypass it with a ceramic capacitor (minimum 0.1 uF) to PGND if there are long inductive leads to battery."

## BQ24150YFFR
designator U?
Fully Integrated Switch-Mode One-Cell Li-Ion Charger with Full USB Compliance and USB-OTG Suppor, 4 V, -40 to 85 degC, 20-pin DSBGA (YFF), Green (RoHS & no Sb/Br); PartNumber: BQ24150YFFR; Manufacturer: Texas Instruments; Lead Acid: N; Li-Ion: Y; SubFamily: Battery Charge Management; Vin(Min)(V): 4; DatasheetVersion: SLUS824A; PackageVersion: revAF, Mar-2012; PackageReference: YFF20-1976X1946DE; PackageDescription: 20-Ball Die-Size Ball Grid Array, 1.98 x 1.95 mm Body, 0.4 mm Pitch, Pb-Free; Supplier 1: Digi-Key; Supplier Part Number 1: 296-23460-2-ND; Supplier Part Number 3: 296-23460-6-ND; Eco-Plan: Green (RoHS & no Sb/Br); Li-Polymer: Y; NiCd: N; NiMH: N; Over Voltage Protection: N; Mounting Technology: Surface Mount; ComponentLink1Description: Datasheet; ComponentLink1URL: http://www.ti.com/general/docs/lit/getliterature.tsp?genericPartNumber=BQ24150&fileType=pdf
footprint YFF20-1976X1946DE (BGA, 20-Leads, Body 1.98x1.95mm, Pitch 0.4mm, Solder Mask Defined Pads)
pins: A1 VBUS (power) "Charger input voltage. Bypass it with a 1-uF ceramic capacitor from VBUS to PGND.", A2 VBUS (power) "Charger input voltage. Bypass it with a 1-uF ceramic capacitor from VBUS to PGND.", A3 BOOT "Boot-strapped capacitor for the high-side MOSFET gate driver.Connect a 10-nF ceramic capacitor (voltage rating above 10 V) from BOOT pin to SW pin", A4 SCL (io) "I2C interface clock. Open drain output, connect a 10-k ohm pullup resistor", B1 PMID (out) "Connection point between reverse blocking MOSFET gate driver.high-side switching MOSFET. Bypass it with a minimum of 3.3-uF capacitor from PMID to PGND", B2 PMID (out) "Connection point between reverse blocking MOSFET gate driver.high-side switching MOSFET. Bypass it with a minimum of 3.3-uF capacitor from PMID to PGND", B3 PMID (out) "Connection point between reverse blocking MOSFET gate driver.high-side switching MOSFET. Bypass it with a minimum of 3.3-uF capacitor from PMID to PGND", B4 SDA (io) "I2C interface data. Open drain output, connect a 10-k ohm  pullup resistor", C1 SW (power) "Internal switch to output inductor connection.", C2 SW (power) "Internal switch to output inductor connection.", C3 SW (power) "Internal switch to output inductor connection.", C4 STAT (hiz) "Charge status pin. Pull low when charge in progress. Open drain for other conditions. During faults, a 128-uS pulse is sent out. STAT pin can be disabled by the EN_STAT bit in control register. STAT can be used to drive a (See Datasheet)", D1 PGND (power) "Power ground", D2 PGND (power) "Power ground", D3 PGND (power) "Power ground", D4 OTG (in) "Boost mode enable control or input current limiting selection pin. When OTG is in active status,bq24150 is forced to operate in boost mode. It has higher priority over I2C control and can be disabled through control register.(See Datasheet)", E1 CSIN (in) "Charge current-sense input. Battery current is sensed via the voltage drop across an external sense resistor. A 0.1-uF ceramic capacitor to PGND is required", E2 AUXPWR (power) "Auxiliary power supply,connected to the battery pack to provide power in high-impedance mode.Bypass it with a 1-uF ceramic capacitor from this pin to PGND", E3 VREF (out) "Internal bias regulator voltage.Connect a 1-uF ceramic capacitor from this output to PGND. External load on VREF is not allowed.", E4 CSOUT (in) "Battery voltage and current sense input. Bypass it with a ceramic capacitor (minimum 0.1 uF) to PGND if there are long inductive leads to battery"

## BQ24150YFFT
designator U?
Fully Integrated Switch-Mode One-Cell Li-Ion Charger with Full USB Compliance and USB-OTG Suppor, 4 V, -40 to 85 degC, 20-pin DSBGA (YFF), Green (RoHS & no Sb/Br); PartNumber: BQ24150YFFT; Manufacturer: Texas Instruments; Lead Acid: N; Li-Ion: Y; SubFamily: Battery Charge Management; Vin(Min)(V): 4; DatasheetVersion: SLUS824A; PackageVersion: revAF, Mar-2012; PackageReference: YFF20-1976X1946DE; PackageDescription: 20-Ball Die-Size Ball Grid Array, 1.98 x 1.95 mm Body, 0.4 mm Pitch, Pb-Free; Supplier 1: Digi-Key; Supplier Part Number 1: 296-23601-2-ND; Supplier Part Number 3: 296-23601-6-ND; Eco-Plan: Green (RoHS & no Sb/Br); Li-Polymer: Y; NiCd: N; NiMH: N; Over Voltage Protection: N; Mounting Technology: Surface Mount; ComponentLink1Description: Datasheet; ComponentLink1URL: http://www.ti.com/general/docs/lit/getliterature.tsp?genericPartNumber=BQ24150&fileType=pdf
footprint YFF20-1976X1946DE (BGA, 20-Leads, Body 1.98x1.95mm, Pitch 0.4mm, Solder Mask Defined Pads)
pins: A1 VBUS (power) "Charger input voltage. Bypass it with a 1-uF ceramic capacitor from VBUS to PGND.", A2 VBUS (power) "Charger input voltage. Bypass it with a 1-uF ceramic capacitor from VBUS to PGND.", A3 BOOT "Boot-strapped capacitor for the high-side MOSFET gate driver.Connect a 10-nF ceramic capacitor (voltage rating above 10 V) from BOOT pin to SW pin", A4 SCL (io) "I2C interface clock. Open drain output, connect a 10-k ohm pullup resistor", B1 PMID (out) "Connection point between reverse blocking MOSFET gate driver.high-side switching MOSFET. Bypass it with a minimum of 3.3-uF capacitor from PMID to PGND", B2 PMID (out) "Connection point between reverse blocking MOSFET gate driver.high-side switching MOSFET. Bypass it with a minimum of 3.3-uF capacitor from PMID to PGND", B3 PMID (out) "Connection point between reverse blocking MOSFET gate driver.high-side switching MOSFET. Bypass it with a minimum of 3.3-uF capacitor from PMID to PGND", B4 SDA (io) "I2C interface data. Open drain output, connect a 10-k ohm  pullup resistor", C1 SW (power) "Internal switch to output inductor connection.", C2 SW (power) "Internal switch to output inductor connection.", C3 SW (power) "Internal switch to output inductor connection.", C4 STAT (hiz) "Charge status pin. Pull low when charge in progress. Open drain for other conditions. During faults, a 128-uS pulse is sent out. STAT pin can be disabled by the EN_STAT bit in control register. STAT can be used to drive a (See Datasheet)", D1 PGND (power) "Power ground", D2 PGND (power) "Power ground", D3 PGND (power) "Power ground", D4 OTG (in) "Boost mode enable control or input current limiting selection pin. When OTG is in active status,bq24150 is forced to operate in boost mode. It has higher priority over I2C control and can be disabled through control register.(See Datasheet)", E1 CSIN (in) "Charge current-sense input. Battery current is sensed via the voltage drop across an external sense resistor. A 0.1-uF ceramic capacitor to PGND is required", E2 AUXPWR (power) "Auxiliary power supply,connected to the battery pack to provide power in high-impedance mode.Bypass it with a 1-uF ceramic capacitor from this pin to PGND", E3 VREF (out) "Internal bias regulator voltage.Connect a 1-uF ceramic capacitor from this output to PGND. External load on VREF is not allowed.", E4 CSOUT (in) "Battery voltage and current sense input. Bypass it with a ceramic capacitor (minimum 0.1 uF) to PGND if there are long inductive leads to battery"